# EAGLE library part 74HC4051 (library scono)
https://www.digikey.com/product-detail/en/nexperia-usa-inc/74HC4051PW118/1727-3064-1-ND/946721
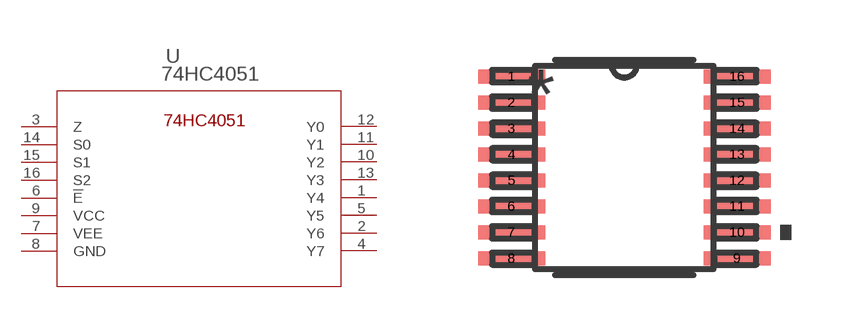
[diagram p57: symbol with the pads of PW16; footprint PW16]

Designator prefix U

## 74HC4051  [PW16]
1  Y4  out
2  Y6  out
3  Z  in
4  Y7  out
5  Y5  out
6  !E  in
7  VEE  pwr
8  GND  pwr
9  VCC  pwr
10  Y2  out
11  Y1  out
12  Y0  out
13  Y3  out
14  S0  in
15  S1  in
16  S2  in

## Footprint PW16 (pad centres in mm)
smd 1.676 x 0.356: 1 -2.819,2.275; 2 -2.819,1.625; 3 -2.819,0.975; 4 -2.819,0.325; 5 -2.819,-0.325; 6 -2.819,-0.975; 7 -2.819,-1.625; 8 -2.819,-2.275; 9 2.819,-2.275; 10 2.819,-1.625; 11 2.819,-0.975; 12 2.819,-0.325; 13 2.819,0.325; 14 2.819,0.975; 15 2.819,1.625; 16 2.819,2.275